# Altium schematic symbol library Schlib1SchLib.SchLib: 3 symbols
Pins are listed as number, name and electrical type; pins without a type are passive.

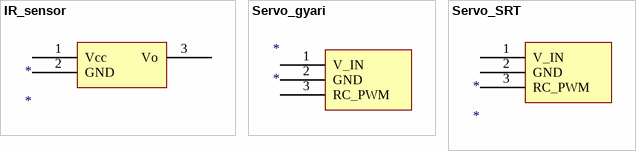
[diagram p0: symbols IR_sensor to Servo_SRT]

## IR_sensor
designator *
pins: 1 Vcc, 2 GND, 3 Vo

## Servo_gyari
designator *
pins: 1 V_IN, 2 GND, 3 RC_PWM

## Servo_SRT
designator *
pins: 1 V_IN, 2 GND, 3 RC_PWM